# Altium schematic symbol library MCP73811T_420IOT.SchLib: 2 symbols
Pins are listed as number, name and electrical type; pins without a type are passive.

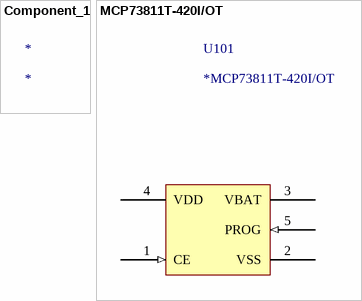
[diagram p0: symbols Component_1 to MCP73811T-420I/OT]

## Component_1
designator *

## MCP73811T-420I/OT
designator U101, comment *MCP73811T-420I/OT
MCP73811T-420I/OT
footprint SOT23-5
pins: 1 CE (in), 2 VSS, 3 VBAT, 4 VDD, 5 PROG (in)